# EAGLE library part WE-FB_EFD25_SCH3 (library WE-FB)
WE-FB Flyback Transformer suitable for LT3573/ LT3574/ LT3575/ LT3748 Characteristics Easy design-in solution Less external components needed Small board space Low cost No optocoupler needed! Long term reliability voltage control No aging Same external parts for different output voltages Easy design of custom power supply due to standard circuit and change of transformers and two components for feedback loop Isolation voltage up to 2.5 kV Applications Isolated power design Sensor interfaces Isolated telecom converters Power over Ethernet <https://www.we-online.com/catalog/media/o35283v209%20Family_we-fb_LT%20Kits_gruppe.jpg> Details see: www.we-online.com/catalog/WE-FB <www.we-online.com/catalog/WE-FB/?utm_source=eagle_model&utm_medium=description_link&utm_campaign=eisos_eagle> Updated by Ella Wu 2022-07-21 2022 Wurth Elektronik
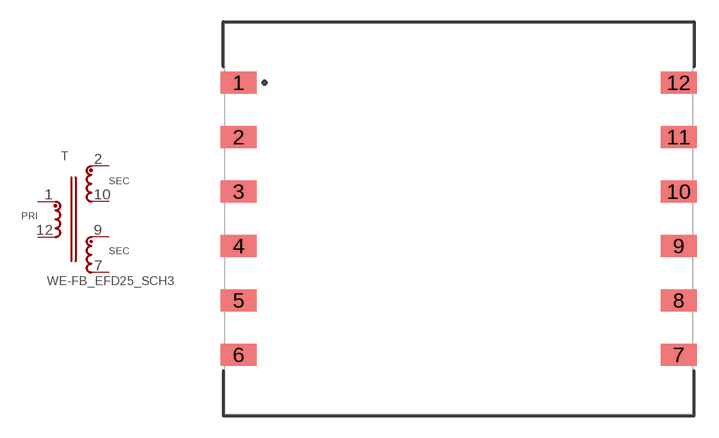
[diagram p5: symbol with the pads of WE-FB_EFD25; footprint WE-FB_EFD25]

Designator prefix T

## WE-FB_EFD25_SCH3_750311889 (DATASHEET-URL: https://www.we-online.com/redexpert/spec/750311889?ae; IOUT: 0.1A; ISAT: 2.95A; L: 37uH; LSMIN: 0.16uH; MOUNT: SMT; N: 1:5; PART-NUMBER: 750311889; VALUE: 750311889; VIN: 28V(DC); VOUT: 250V; VT: 500V(AC))  [WE-FB_EFD25]
1  1  pas
2  6  pas
7  3  pas
9  4  pas
10  5  pas
12  2  pas

## Footprint WE-FB_EFD25 (pad centres in mm)
WE-FB Flyback Transformer suitable for LT3573/ LT3574/ LT3575/ LT3748 Size: EFD25 SMD12 Pin
smd 2.5 x 1.52: 1 -15.19,9.4; 2 -15.19,5.64; 3 -15.19,1.88; 4 -15.19,-1.88; 5 -15.19,-5.64; 6 -15.19,-9.4; 7 15.19,-9.4; 8 15.19,-5.64; 9 15.19,-1.88; 10 15.19,1.88; 11 15.19,5.64; 12 15.19,9.4